# EAGLE library part MAX3377EEUD+ (library inanna)
MAX3377EEUD+ 4-bit bidirectional level converter
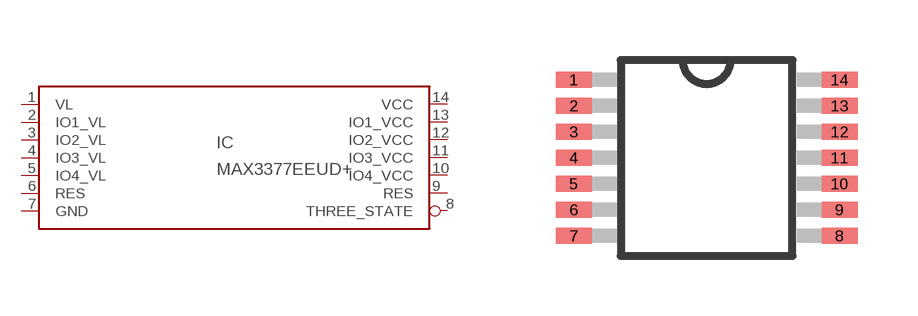
[diagram p2: symbol with the pads of MAX3377EEUD+; footprint MAX3377EEUD+]

Designator prefix IC

## MAX3377EEUD+  [MAX3377EEUD+]
1  VL  pwr
2  IO1_VL
3  IO2_VL
4  IO3_VL
5  IO4_VL
6  RES  nc
7  GND  pwr
8  THREE_STATE  in
9  RES  nc
10  IO4_VCC
11  IO3_VCC
12  IO2_VCC
13  IO1_VCC
14  VCC  pwr

## Footprint MAX3377EEUD+ (pad centres in mm)
MAX3377EEUD+ Auto generated by make-symbol-device-package-bsdl.ulp Rev. 43
smd 0.9 x 0.4: 1 -3.325,1.95; 2 -3.325,1.3; 3 -3.325,0.65; 4 -3.325,0; 5 -3.325,-0.65; 6 -3.325,-1.3; 7 -3.325,-1.95; 8 3.325,-1.95; 9 3.325,-1.3; 10 3.325,-0.65; 11 3.325,0; 12 3.325,0.65; 13 3.325,1.3; 14 3.325,1.95